# EAGLE library part 66201421022 (library Wire-to-Board (rev18a))
WR-MPC3 3.00mm Male Dual Row Angled Header with Plastic Pegs, 14 Pins=>Code : Con_WTB-MPC3_2_PCB_THT66201421022 <http://katalog.we-online.de/media/thumbs2/eican/thb_Con_WTB-MPC3_2_PCB_THT86220xx21022_pf2.jpg> Details see: http://katalog.we-online.de/en/em/MPC3_3_00_MALE_DUAL_ROW_ANGLED_HEADER_W_PLASTIC_PEGS_6620XX21022 Created 2014-06-06, Karrer Zheng 2014 (C) Würth Elektronik
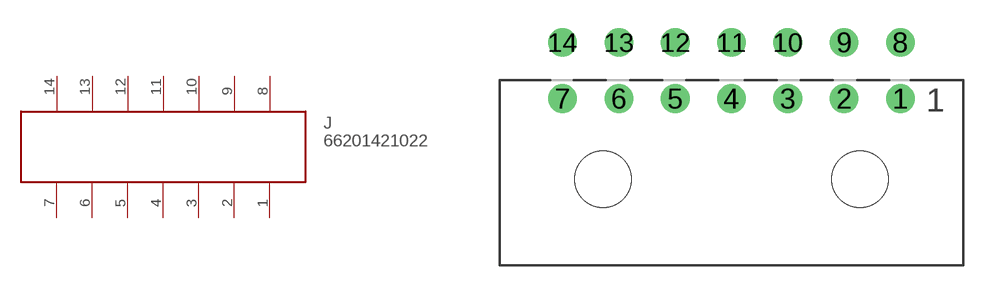
[diagram p367: symbol with the pads of 66201421022; footprint 66201421022]

Designator prefix J

## 66201421022  [66201421022]
1  1
2  2
3  3
4  4
5  5
6  6
7  7
8  8
9  9
10  10
11  11
12  12
13  13
14  14

## Footprint 66201421022 (pad centres in mm)
WR-MPC3 3.00mm Male Dual Row Angled Header with Plastic Pegs, 14 Pins
drill 1.02: 1 9,4.3; 2 6,4.3; 3 3,4.3; 4 0,4.3; 5 -3,4.3; 6 -6,4.3; 7 -9,4.3; 8 9,7.3; 9 6,7.3; 10 3,7.3; 11 0,7.3; 12 -3,7.3; 13 -6,7.3; 14 -9,7.3
hole 3 at 6.85,0
hole 3 at -6.85,0